# EAGLE library part MC34063 (library Custom)
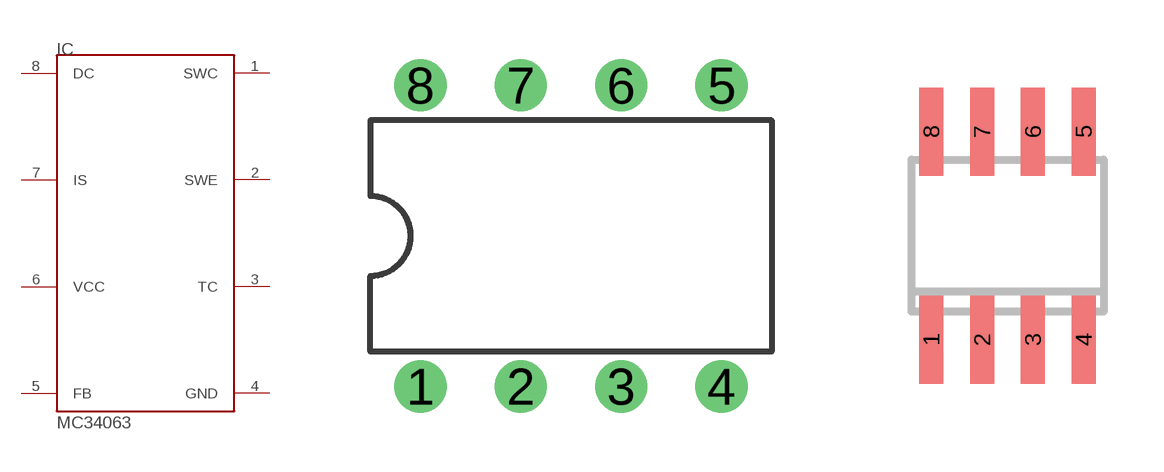
[diagram p40: symbol with the pads of DIL08; footprints DIL08, SOIC8]

Designator prefix IC

## MC34063AP  [DIL08]
1  SWC  pas
2  SWE  pas
3  TC  pas
4  GND  pas
5  FB  pas
6  VCC  pas
7  IS  pas
8  DC  pas

## MC34063AD  [SOIC8]
Pads as for DIL08

## Footprint DIL08 (pad centres in mm)
Dual In Line Package
drill 0.813 pad 1.27: 1 -3.81,-3.81; 2 -1.27,-3.81; 3 1.27,-3.81; 4 3.81,-3.81; 5 3.81,3.81; 6 1.27,3.81; 7 -1.27,3.81; 8 -3.81,3.81

## Footprint SOIC8 (pad centres in mm)
Small Outline IC
smd 0.6 x 2.2: 1 -1.905,-2.6; 2 -0.635,-2.6; 3 0.635,-2.6; 4 1.905,-2.6; 5 1.905,2.6; 6 0.635,2.6; 7 -0.635,2.6; 8 -1.905,2.6